# Altium schematic symbol library Communication.SchLib: 6 symbols
Pins are listed as number, name and electrical type; pins without a type are passive.

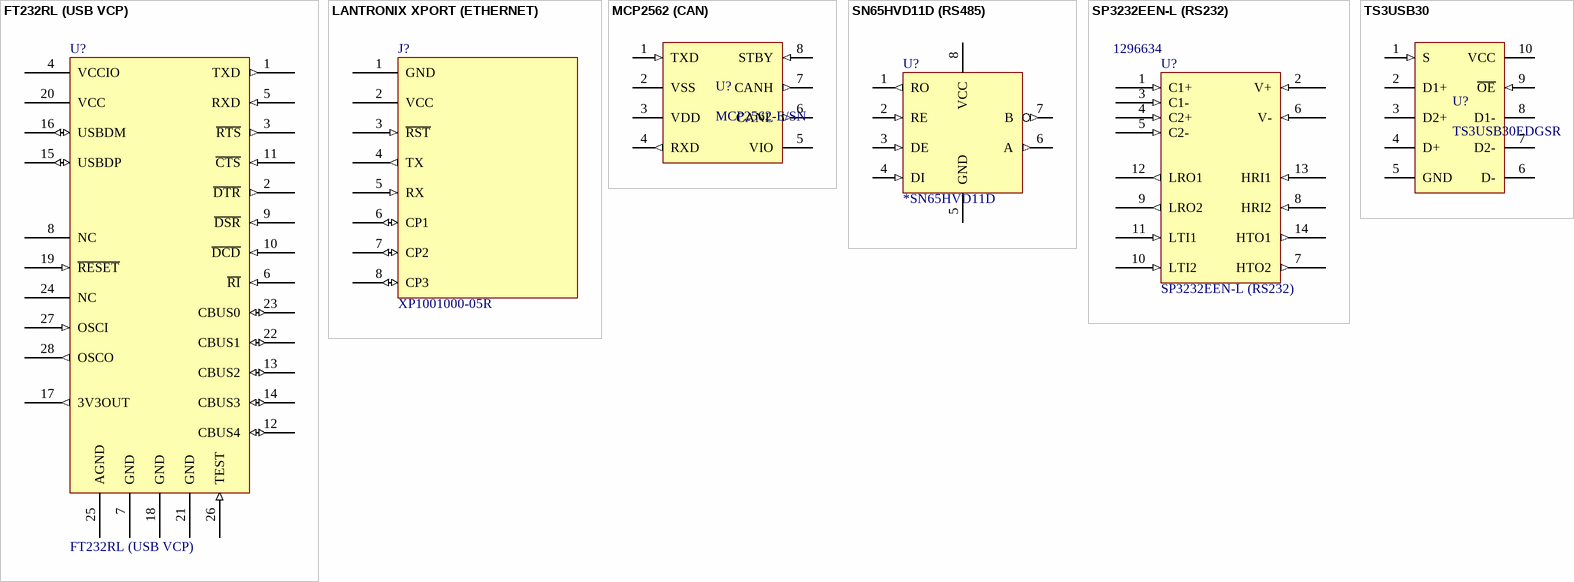
[diagram p0: symbols FT232RL (USB VCP) to TS3USB30]

## FT232RL (USB VCP)
designator U?
FTDI   FT232RL   IC, USB TO UART, SMD, 28SSOP; Supplier: Element14; Manufacturer: FTDI; Manufacturer Part Number: FT232RL; Supplier Part Number: 1146032RL
footprint SSOP28
pins: 1 TXD (out), 2 ~{DTR} (out), 3 ~{RTS} (out), 4 VCCIO (power), 5 RXD (in), 6 ~{RI} (in), 7 GND (power), 8 NC, 9 ~{DSR} (in), 10 ~{DCD} (in), 11 ~{CTS} (in), 12 CBUS4 (io), 13 CBUS2 (io), 14 CBUS3 (io), 15 USBDP (io), 16 USBDM (io), 17 3V3OUT (out), 18 GND (power), 19 ~{RESET} (in), 20 VCC (power), 21 GND (power), 22 CBUS1 (io), 23 CBUS0 (io), 24 NC, 25 AGND (power), 26 TEST (in), 27 OSCI (in), 28 OSCO (out)

## LANTRONIX XPORT (ETHERNET)
designator J?, comment XP1001000-05R
Ethernet Modules XPort XE Ext. Temp. without Encryption; Manufacturer: Lantronix; Supplier: Element14; Manufacturer Part Number: XP1001000-05R; Supplier Part Number: 2115259
footprint RJ45 XPORT
pins: 1 GND (power), 2 VCC (power), 3 ~{RST} (in), 4 TX (out), 5 RX (in), 6 CP1 (io), 7 CP2 (io), 8 CP3 (io)

## MCP2562 (CAN)
designator U?, comment MCP2562-E/SN
MICROCHIP         MCP2562-E/SN            CAN Bus, Transceiver, CAN, LIN, 1, 1, 4.5 V, 5.5 V, SOIC; Supplier: Element14; Manufacturer: Microchip; Manufacturer Part Number: MCP2562-E/SN; Supplier Part Number: 2362839
footprint SOP8
pins: 1 TXD (in), 2 VSS (power), 3 VDD (power), 4 RXD (out), 5 VIO (power), 6 CANL (out), 7 CANH (out), 8 STBY (in)

## SN65HVD11D (RS485)
designator U?, comment *SN65HVD11D
IC TRANSCEIVER RS485 3.3V 8-SOIC; Manufacturer: Texas Instruments; Manufacturer Part Number: SN65HVD11D; Supplier: Element14; Supplier Part Number: 2125627
footprint SOP8
pins: 1 RO (out), 2 RE (in), 3 DE (in), 4 DI (in), 5 GND (power), 6 A (out), 7 B (out), 8 VCC (power)

## SP3232EEN-L (RS232)
designator U?  Supplier Part Number: 1296634
IC TXRX RS232 ESD TRUE 16NSOIC; Manufacturer: Exar; Manufacturer Part Number: SP3232EEN-L; Supplier: Element14
footprint SOP16
pins: 1 C1+ (in), 2 V+ (in), 3 C1- (in), 4 C2+ (in), 5 C2- (in), 6 V- (in), 7 HTO2 (out), 8 HRI2 (in), 9 LRO2 (out), 10 LTI2 (in), 11 LTI1 (in), 12 LRO1 (out), 13 HRI1 (in), 14 HTO1 (out), 15 GND (power) hidden to GND, 16 VCC (power) hidden to VCC

## TS3USB30
designator U?, comment TS3USB30EDGSR
IC USB SWITCH SGL 1X2 10MSOP; Manufacturer: Texas Instruments; Supplier: Element14; Manufacturer Part Number: TS3USB30EDGSR; Supplier Part Number: 2459911
footprint VSSOP10 (PLASTIC SMALL-OUTLINE PACKAGE)
pins: 1 S (in), 2 D1+, 3 D2+, 4 D+, 5 GND (power), 6 D-, 7 D2-, 8 D1-, 9 ~{OE} (in), 10 VCC (power)